# EAGLE library part LTM8023 (library evansLibrary)
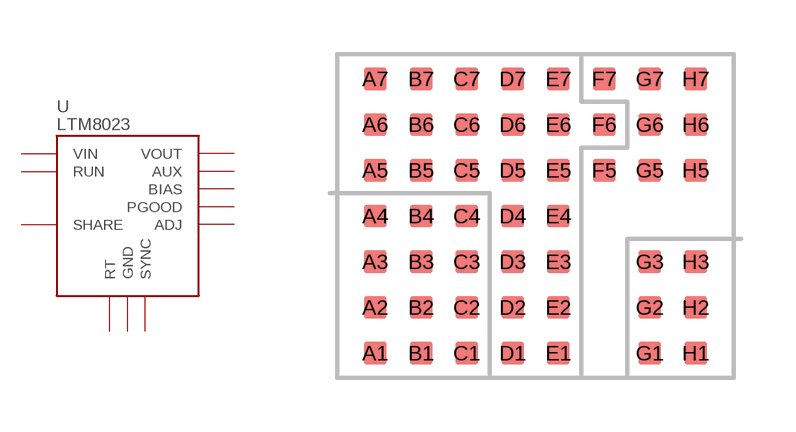
[diagram p7: symbol with the pads of LTM_8023; footprint LTM_8023]

Designator prefix -

## LTM8023  [LTM_8023]
A1  VOUT
A2  VOUT
A3  VOUT
A4  VOUT
A5  GND
A6  GND
A7  GND
B1  VOUT
B2  VOUT
B3  VOUT
B4  VOUT
B5  GND
B6  GND
B7  GND
C1  VOUT
C2  VOUT
C3  VOUT
C4  VOUT
C5  GND
C6  GND
C7  GND
D1  GND
D2  GND
D3  GND
D4  GND
D5  GND
D6  GND
D7  GND
E1  GND
E2  GND
E3  GND
E4  GND
E5  GND
E6  GND
E7  GND
F5  AUX
F6  GND
F7  SHARE
G1  VIN
G2  VIN
G3  VIN
G5  BIAS
G6  SYNC
G7  RT
H1  VIN
H2  VIN
H3  VIN
H5  RUN
H6  PGOOD
H7  ADJ

## Footprint LTM_8023 (pad centres in mm)
smd 0.635 x 0.635: A1 -4.445,-3.81; A2 -4.445,-2.54; A3 -4.445,-1.27; A4 -4.445,0; A5 -4.445,1.27; A6 -4.445,2.54; A7 -4.445,3.81; B1 -3.175,-3.81; B2 -3.175,-2.54; B3 -3.175,-1.27; B4 -3.175,0; B5 -3.175,1.27; B6 -3.175,2.54; B7 -3.175,3.81; C1 -1.905,-3.81; C2 -1.905,-2.54; C3 -1.905,-1.27; C4 -1.905,0; C5 -1.905,1.27; C6 -1.905,2.54; C7 -1.905,3.81; D1 -0.635,-3.81; D2 -0.635,-2.54; D3 -0.635,-1.27; D4 -0.635,0; D5 -0.635,1.27; D6 -0.635,2.54; D7 -0.635,3.81; E1 0.635,-3.81; E2 0.635,-2.54; E3 0.635,-1.27; E4 0.635,0; E5 0.635,1.27; E6 0.635,2.54; E7 0.635,3.81; F5 1.905,1.27; F6 1.905,2.54; F7 1.905,3.81; G1 3.175,-3.81; G2 3.175,-2.54; G3 3.175,-1.27; G5 3.175,1.27; G6 3.175,2.54; G7 3.175,3.81; H1 4.445,-3.81; H2 4.445,-2.54; H3 4.445,-1.27; H5 4.445,1.27; H6 4.445,2.54; H7 4.445,3.81